# Altium schematic symbol library ECS-480-8-36-CKM.SchLib: 1 symbol
Pins are listed as number, name and electrical type; pins without a type are passive.

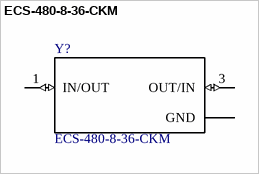
[diagram p0: symbol ECS-480-8-36-CKM]

## ECS-480-8-36-CKM
designator Y?
The miniature ECX-2236 is a very compact SMD Crystal. The 2.5 x 2.0 x 0.55 mm ceramic package is ideal for today's SMD manufacturing environment.; MF: ECS Inc.; MP: ECS-480-8-36-CKM; Package: Package Analog Devices; Availability: Unavailable; Price: None; SnapEDA_Link: https://www.snapeda.com/parts/ECS-480-8-36-CKM/ECS%20Inc./view-part/?ref=snap; Value: *
footprint *XTAL_ECS-480-8-36-CKM
pins: 1 IN/OUT (io), 2 GND (power), 3 OUT/IN (io), 4 GND (power)